# Altium footprint library thuvien_ICtester.PcbLib: 30 footprints (part 2 of 2)
Each footprint in its own frame and in the unit in brackets; x right, y up, seen from the top. Pads: shape width x height; smd on the part's side, far side on the other; paste and mask are expansions set on the pad; w line width, h text height; cw(c..) or ccw(c..) is an arc to the next point about the centre after c.
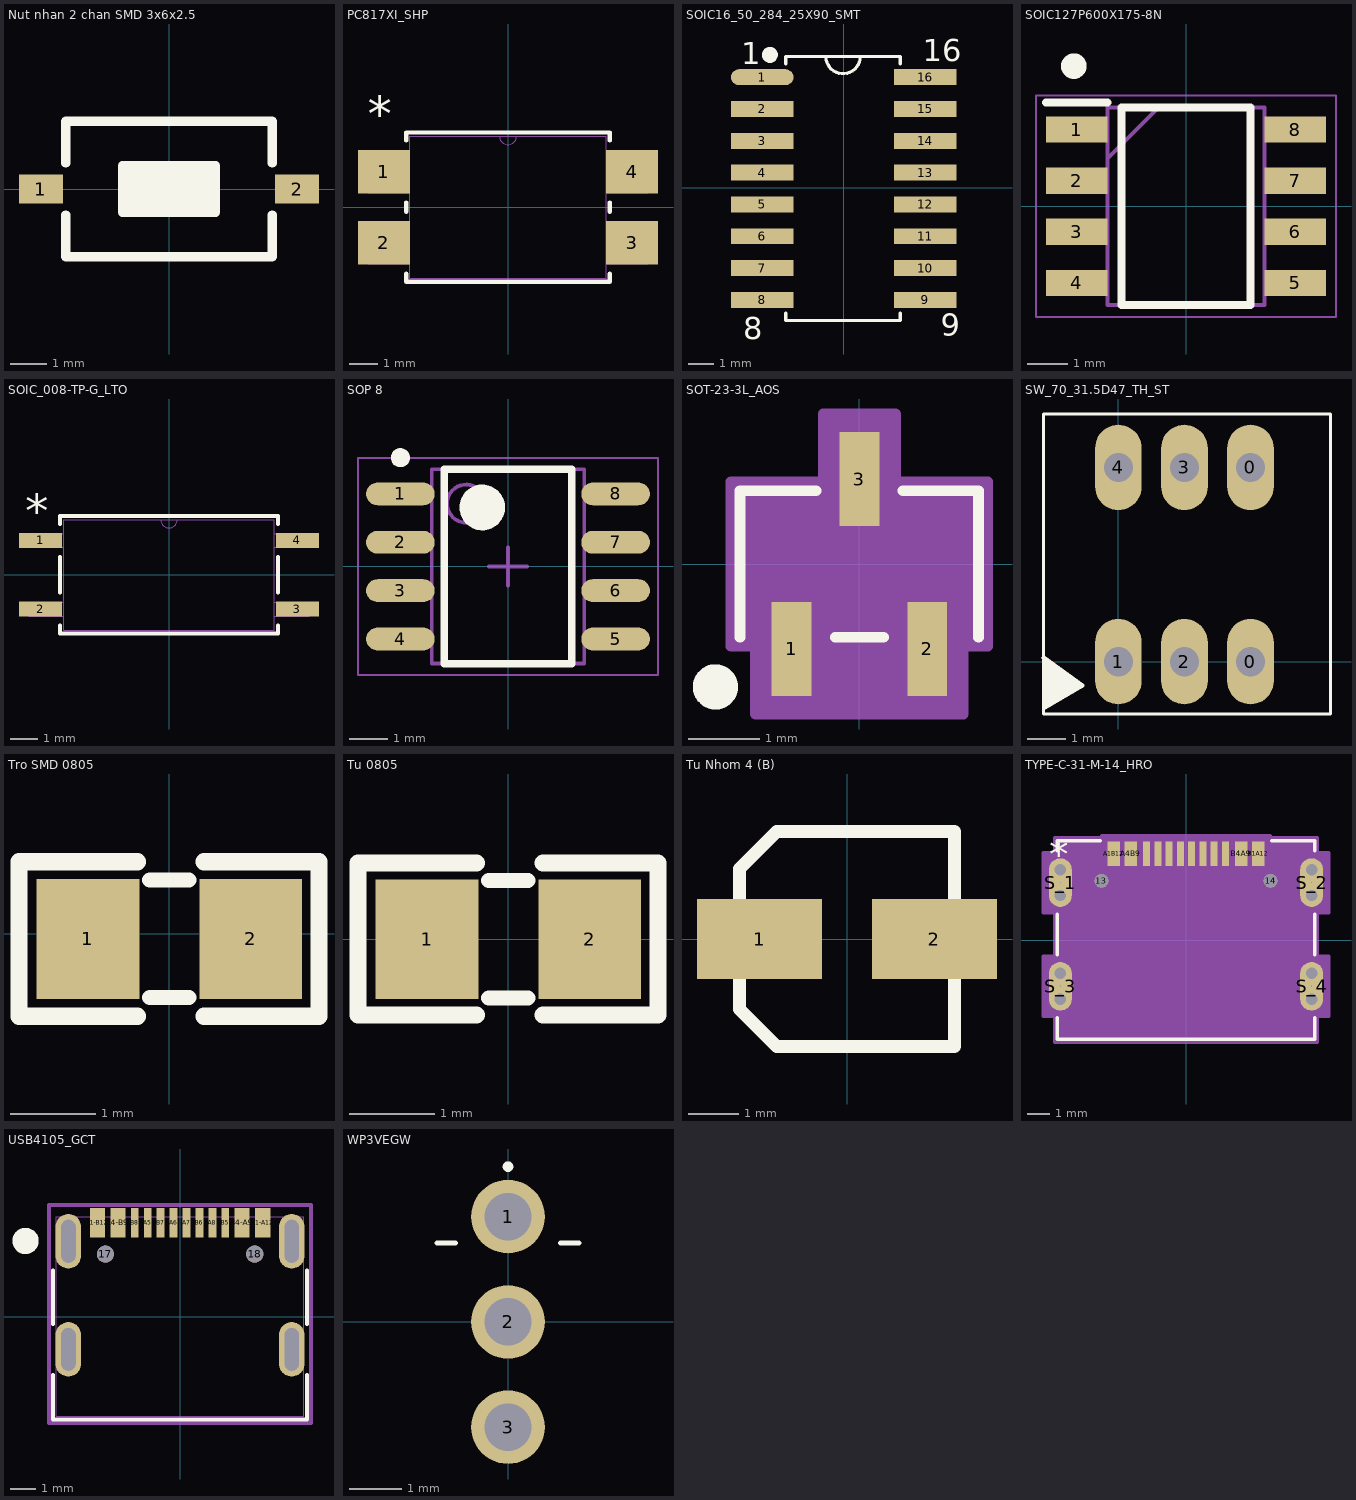
[diagram p1: the footprints below, top view; thin cyan lines are the x and y axes]

## Nut nhan 2 chan SMD 3x6x2.5 [mm] "Switch SMD type"
pads (2):
  rect 1.2x0.8 smd: 1(-3.5,0) 2(3.5,0)
Top Overlay:
  rectangle: -1.27,-0.635 1.27,0.635
  lines w0.254: -2.819,-0.711 -2.819,-1.854 2.819,-1.854 2.819,-0.711 ; -2.819,0.711 -2.819,1.854 2.819,1.854 2.819,0.711 ; -1.27,-0.635 1.27,-0.635 1.27,0.635 -1.27,0.635 -1.27,-0.635
3D body "User Library-Button-SMD.step": height 2.5, standoff 0, extent -3.05,-1.85 3.05,1.85

## PC817XI_SHP [mil]
pads (4):
  rect 73x61 smd paste+0 mask+0: 1(-174.5,50) 2(-174.5,-50) 3(174.5,-50) 4(174.5,50)
Top Overlay:
  lines w6: -143,-93.6 -143,-105 143,-105 143,-93.6 ; -143,-6.4 -143,6.4 ; -143,93.6 -143,105 143,105 143,93.6 ; 143,-6.4 143,6.4
  text "*" at -197,106 h50
Mechanical 13:
  lines w0: -12,100 ccw(c0,100) 12,100
  lines w1: -197,-79.5 -197,-20.5 -138,-20.5 -138,-79.5 -197,-79.5 ; -197,20.5 -197,79.5 -138,79.5 -138,20.5 -197,20.5 ; -138,-100 138,-100 138,100 -138,100 -138,-100 ; 138,-79.5 138,-20.5 197,-20.5 197,-79.5 138,-79.5 ; 138,20.5 138,79.5 197,79.5 197,20.5 138,20.5
  text "*" at -135.5,47 h50
3D body "PC817XI_SHP.step": height 181.1, standoff 0, extent -197.01,-100 197.01,100

## SOIC16_50_284_25X90_SMT [mm]
pads (16):
  oval 2.5x0.635 smd mask+0.076: 1(-3.25,4.42)
  rect 2.5x0.635 smd mask+0.076: 2(-3.25,3.15) 3(-3.25,1.88) 4(-3.25,0.61) 5(-3.25,-0.66) 6(-3.25,-1.93) 7(-3.25,-3.2) 8(-3.25,-4.47) 9(3.25,-4.47) 10(3.25,-3.2) 11(3.25,-1.93) 12(3.25,-0.66) 13(3.25,0.61) 14(3.25,1.88) 15(3.25,3.15) 16(3.25,4.42)
Top Overlay:
  circle w0.381: c-2.946,5.309 r0.127
  lines w0.127: -2.311,-5.003 -2.311,-5.295 2.261,-5.295 2.261,-5.003 ; -2.311,4.953 -2.311,5.246 2.261,5.246 2.261,4.953 ; -0.712,5.246 ccw(c-0.025,5.246) 0.662,5.246
  text "1" at -4.089,4.928 h0.89
  text "8" at -4.016,-6.032 h0.89
  text "9" at 3.878,-5.909 h0.89
  text "16" at 3.15,5.055 h0.89
3D body "SOIC-16-1.step": height 1.4, standoff 0, extent -3.025,-4.975 2.975,4.925

## SOIC127P600X175-8N [mm]
pads (8):
  rect 1.525x0.65 smd: 1(-2.712,1.905) 2(-2.712,0.635) 3(-2.712,-0.635) 4(-2.712,-1.905) 5(2.712,-1.905) 6(2.712,-0.635) 7(2.712,0.635) 8(2.712,1.905)
Top Overlay:
  circle w0.381: c-2.787,3.479 r0.127
  lines w0.2: -3.475,2.58 -1.95,2.58 ; -1.6,-2.45 1.6,-2.45 1.6,2.45 -1.6,2.45 -1.6,-2.45
Mechanical 13:
  lines w0.1: -1.95,1.18 -0.68,2.45 ; -1.95,-2.45 1.95,-2.45 1.95,2.45 -1.95,2.45 -1.95,-2.45
Mechanical 15:
  lines w0.05: -3.725,-2.75 3.725,-2.75 3.725,2.75 -3.725,2.75 -3.725,-2.75
3D body "AO4606.stp": height 1.75, standoff 0, extent -3,-2.45 3,2.45

## SOIC_008-TP-G_LTO [mil]
pads (4):
  rect 63x22 smd paste+0 mask+0: 1(-187,50) 2(-187,-50) 3(187,-50) 4(187,50)
Top Overlay:
  lines w6: -158.5,-74.1 -158.5,-85.5 158.5,-85.5 158.5,-74.1 ; -158.5,-25.9 -158.5,25.9 ; -158.5,74.1 -158.5,85.5 158.5,85.5 158.5,74.1 ; 158.5,-25.9 158.5,25.9
  text "*" at -209.5,67 h50
Mechanical 13:
  lines w0: -12,80.5 ccw(c0,80.5) 12,80.5
  lines w1: -204.5,-60 -204.5,-40 -153.5,-40 -153.5,-60 -204.5,-60 ; -204.5,40 -204.5,60 -153.5,60 -153.5,40 -204.5,40 ; -153.5,-80.5 153.5,-80.5 153.5,80.5 -153.5,80.5 -153.5,-80.5 ; 153.5,-60 153.5,-40 204.5,-40 204.5,-60 153.5,-60 ; 153.5,40 153.5,60 204.5,60 204.5,40 153.5,40
  text "*" at -151,27.5 h50
3D body "SOIC_008-TP-G_LTO.step": height 87.09, standoff 0, extent -204.49,-80.51 204.49,80.51

## SOP 8 [mm] "SOIC, 8-Leads, Body 4.9x3.9mm, Pitch 1.27mm, IPC High Density"
pads (8):
  oval 1.8x0.6 smd: 1(-2.825,1.905) 2(-2.825,0.635) 3(-2.825,-0.635) 4(-2.825,-1.905) 5(2.825,-1.905) 6(2.825,-0.635) 7(2.825,0.635) 8(2.825,1.905)
Top Overlay:
  circle w0.6: c-0.675,1.55 r0.3
  circle w0.25: c-2.825,2.855 r0.125
  lines w0.2: -1.675,-2.55 1.675,-2.55 1.675,2.55 -1.675,2.55 -1.675,-2.55
Mechanical 13:
  circle w0.1: c-1.1,1.65 r0.5
  lines w0.1: -2,-2.55 2,-2.55 2,2.55 -2,2.55 -2,-2.55
Mechanical 15:
  lines w0.05: -3.937,-2.85 3.937,-2.85 3.937,2.85 -3.937,2.85 -3.937,-2.85
  lines w0.1: -0.5,0 0.5,0 ; 0,-0.5 0,0.5
3D body "CircuitWorks-SO-8 (PIC12FXXX).step": height 1.6, standoff 0, extent -2.995,-2.45 2.995,2.45

## SOT-23-3L_AOS [mil]
pads (3):
  rect 22x52 smd paste+0 mask+0: 1(-37.5,-47) 2(37.5,-47) 3(0,47)
Top Overlay:
  circle w15: c-79.71,-68.02 r5
  lines w6: -66,-40.5 -66,40.5 -24.1,40.5 ; -13.4,-40.5 13.4,-40.5 ; 24.1,40.5 66,40.5 66,-40.5
Mechanical 13:
  lines w1: -61,-35.5 -61,35.5 61,35.5 61,-35.5 -61,-35.5 ; -47.5,-59 -27.5,-59 -27.5,-35.5 -47.5,-35.5 -47.5,-59 ; -10,35.5 -10,59 10,59 10,35.5 -10,35.5 ; 27.5,-59 47.5,-59 47.5,-35.5 27.5,-35.5 27.5,-59
Mechanical 15:
  region: -71,-45.5 -71,45.5 -20,45.5 -20,83 20,83 20,45.5 71,45.5 71,-45.5 57.5,-45.5 57.5,-83 -57.5,-83 -57.5,-45.5
  lines w6: -71,-45.5 -57.5,-45.5 -57.5,-83 57.5,-83 57.5,-45.5 71,-45.5 71,45.5 20,45.5 20,83 -20,83 -20,45.5 -71,45.5 -71,-45.5
3D body "SOT-23-3L_AOS.step": height 49.09, standoff 0, extent -60.98,-59.02 60.98,59.02

## SW_70_31.5D47_TH_ST [mm] "CASE: TH"
height 12
pads (6):
  oval 1.2x2.2 hole 0.75: 0(3.4,0) 0(3.4,5) 1(0,0) 2(1.7,0) 3(1.7,5) 4(0,5)
Top Overlay:
  region: -1.981,0.102 -1.93,0.051 -1.93,-1.143 -1.524,-0.965 -0.965,-0.584
  lines w0.076: -1.93,-1.346 -1.93,6.375 5.461,6.375 5.461,-1.346 -1.93,-1.346
  lines w0.127: -1.915,0.097 -0.94,-0.61 -1.902,-1.173
3D body "Toggle Button (7 x 7 x 12mm) - Latching.stp": height 13.54, standoff -3.23, extent -1.74,-0.914 5.296,5.995

## Tro SMD 0805 [mm]
pads (2):
  rect 1.2x1.4 smd: 1(-0.946,-0.061) 2(0.954,-0.061)
Top Overlay:
  lines w0.178: -0.224,-0.747 0.233,-0.747 ; -0.224,0.625 0.233,0.625
  lines w0.2: -0.367,-0.965 -1.75,-0.965 -1.75,0.838 -0.367,0.838 ; 0.408,-0.965 1.75,-0.965 1.75,0.838 0.408,0.838
3D body "Tro 0805.STEP": height 0.53, standoff 0, extent -1.562,-0.763 1.438,0.637

## Tu 0805 [mm] "Compoment SMD 80x50mil"
height 1.27
pads (2):
  rect 1.2x1.4 smd: 1(-0.946,-0.003) 2(0.954,-0.003)
Top Overlay:
  lines w0.178: -0.224,-0.689 0.233,-0.689 ; -0.224,0.682 0.233,0.682
  lines w0.2: -0.367,-0.889 -1.753,-0.889 -1.753,0.889 -0.367,0.889 ; 0.408,-0.889 1.753,-0.889 1.753,0.889 0.408,0.889
3D body "SW3dPS-smt_resistor_packages.STEP": height 0.61, standoff -0.01, extent -1.006,-0.638 1.014,0.632

## Tu Nhom 4 (B) [mm]
pads (2):
  rect 2.5x1.6 smd: 1(-1.75,0) 2(1.75,0)
Top Overlay:
  lines w0.254: -2.15,-1.406 -2.15,1.406 -1.406,2.15 2.15,2.15 2.15,-2.15 -1.406,-2.15 -2.15,-1.406
3D body "aluminum capacitor 4mm.STEP": height 3.91, standoff 0, extent -2.314,-2.15 2.286,2.15

## TYPE-C-31-M-14_HRO [mil]
pads (26):
  round 24 / inner round 60 / far side round 24 hole 24 unplated paste-12 mask-12: 13(-147.64,103.54) 14(147.64,103.54)
  rect 22x43 smd paste+0 mask+0: A1B12(-125.98,150.78) A4B9(-96.46,150.78) B1A12(125.98,150.78) B4A9(96.46,150.78)
  rect 12x43 smd paste+0 mask+0: A5(-49.21,150.78) A6(-9.84,150.78) A7(9.84,150.78) A8(49.21,150.78) B5(68.9,150.78) B6(29.53,150.78) B7(-29.53,150.78) B8(-68.9,150.78)
  oval 40x85 / inner round 60 / far side oval 40x85 hole 1 paste-42.5 mask+0: S_1(-219.49,100.39) S_2(219.49,100.39) S_3(-219.49,-80.71) S_4(219.49,-80.71)
  round 20 / inner round 60 / far side round 20 hole 20 unplated paste-10 mask-10: S_1_H1(-219.49,122.89) S_1_H2(-219.49,77.89) S_2_H1(219.49,122.89) S_2_H2(219.49,77.89) S_3_H1(-219.49,-58.21) S_3_H2(-219.49,-103.21) S_4_H1(219.49,-58.21) S_4_H2(219.49,-103.21)
Top Overlay:
  lines w6: -224.5,-135.93 -224.5,-173.5 224.5,-173.5 224.5,-135.93 ; -224.5,-25.49 -224.5,45.17 ; -224.5,155.61 -224.5,173.5 -150.03,173.5 ; 150.03,173.5 224.5,173.5 224.5,155.61 ; 224.5,-25.49 224.5,45.17
  text "*" at -238.48,125.78 h50
Mechanical 13:
  lines w1: -219.5,-168.5 219.5,-168.5 219.5,168.5 -219.5,168.5 -219.5,-168.5
  text "*" at -238.48,125.78 h50
Mechanical 15:
  region: -229.49,178.5 -229.49,152.89 -249.49,152.89 -249.49,47.89 -229.49,47.89 -229.5,-28.21 -249.49,-28.21 -249.49,-133.21 -229.5,-133.21 -229.5,-178.5 229.5,-178.5 229.5,-133.21 249.49,-133.21 249.49,-28.21 229.5,-28.21 229.49,47.89 249.49,47.89 249.49,152.89 229.49,152.89 229.49,178.5 146.98,178.5 146.98,182.28 -146.98,182.28 -146.98,178.5
  lines w6: -249.49,-133.21 -249.49,-28.21 -229.5,-28.21 -229.49,47.89 -249.49,47.89 -249.49,152.89 -229.49,152.89 -229.49,178.5 -146.98,178.5 -146.98,182.28 146.98,182.28 146.98,178.5 229.49,178.5 229.49,152.89 249.49,152.89 249.49,47.89 229.49,47.89 229.5,-28.21 249.49,-28.21 249.49,-133.21 229.5,-133.21 229.5,-178.5 -229.5,-178.5 -229.5,-133.21 -249.49,-133.21
Multi-Layer:
  region: -179,67.89 -179,-168.5 179,-168.5 179,67.89
  lines w20: -219.49,-103.21 -219.49,-58.21 ; -219.49,77.89 -219.49,122.89 ; 219.49,-103.21 219.49,-58.21 ; 219.49,77.89 219.49,122.89
3D body "TYPE-C-31-M-12--3DModel-STEP-56544.STEP": height 130.31, standoff -38.98, extent -176.96,-168.3 175.01,142.92

## USB4105_GCT [mil]
pads (18):
  round 26 / inner round 60 / far side round 26 hole 26 unplated paste-13 mask-13: 17(-113.78,94.91) 18(113.78,94.91)
  rect 23x45 smd paste-22.5 mask+0: A1-B12(-125.98,143.14) A4-B9(-94.49,143.14) B1-A12(125.98,143.14) B4-A9(94.49,143.14)
  rect 12x45 smd paste+0 mask+0: A5(-49.21,143.14) A6(-9.84,143.14) A7(9.84,143.14) A8(49.21,143.14) B5(68.9,143.14) B6(29.53,143.14) B7(-29.53,143.14) B8(-68.9,143.14)
  oval 39x83 hole 65 slot 22 at 0 deg: ""(-170.08,-49.97) ""(-170.08,114.6) ""(170.08,-49.97) ""(170.08,114.6)
Top Overlay:
  circle w20: c-235.24,115.16 r10
  lines w6: -193.5,-88.64 -193.5,-157 193.5,-157 193.5,-88.64 ; -193.5,-11.29 -193.5,69.92 ; 193.5,-11.29 193.5,69.92
Bottom Overlay:
  circle w20: c-235.24,115.16 r10
Mechanical 13:
  lines w1: -188.5,-152 188.5,-152 188.5,152 -188.5,152 -188.5,-152
Mechanical 15:
  lines w6: -199.58,-162 -199.58,169.74 199.58,169.74 199.58,-162 -199.58,-162
3D body "TYPE-C-31-M-12--3DModel-STEP-56544.STEP": height 130.31, standoff -38.98, extent -175.98,-151.57 175.99,159.65

## WP3VEGW [mm]
pads (3):
  round 1.4 hole 0.9: 1(0,2) 2(0,0) 3(0,-2)
Top Overlay:
  lines w0.1: -1.35,1.5 -1,1.5 ; 1,1.5 1.35,1.5 ; 0,2.9 ccw(c0,2.95) 0,3 ccw(c0,2.95) 0,2.9
3D body "WP3VEGW.stp": height 11, standoff -18.5, extent -1.998,-2.35 1.998,2.35